# Altium footprint library muon_lib.PcbLib: 5 footprints
Each footprint in its own frame and in the unit in brackets; x right, y up, seen from the top. Pads: shape width x height; smd on the part's side, far side on the other; paste and mask are expansions set on the pad; w line width, h text height; cw(c..) or ccw(c..) is an arc to the next point about the centre after c.
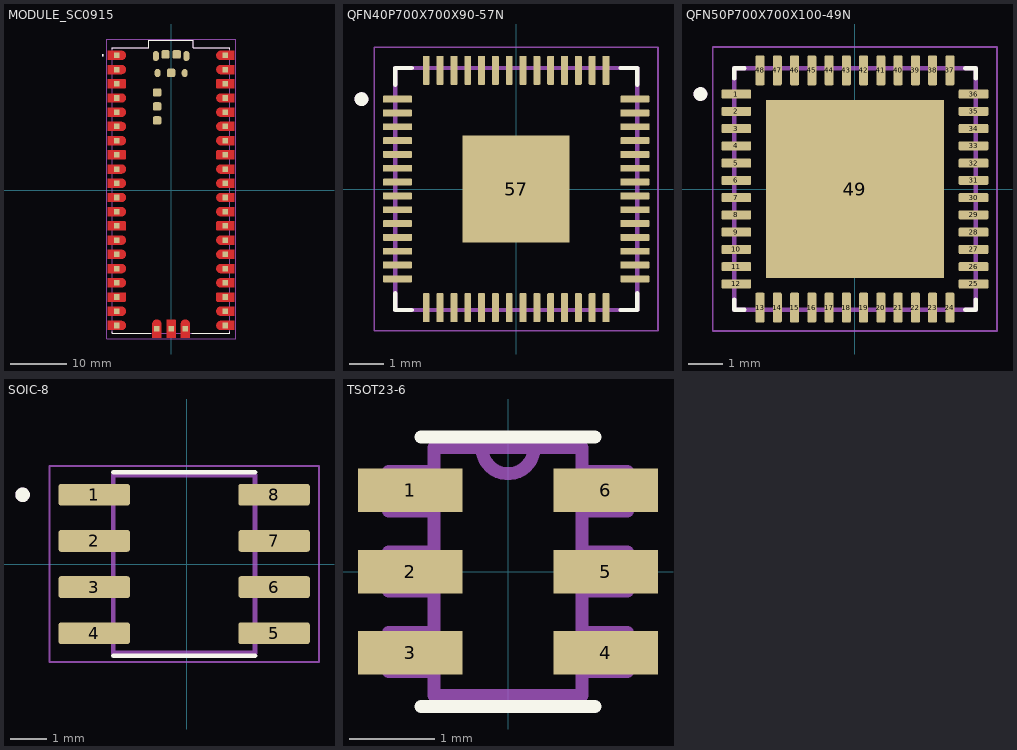
[diagram p0: the footprints below, top view; thin cyan lines are the x and y axes]

## MODULE_SC0915 [mm]
pads (53):
  rect 1x1 smd paste-1 mask+0: 1(-9.69,24.13) 2(-9.69,21.59) 3(-9.69,19.05) 4(-9.69,16.51) 5(-9.69,13.97) 6(-9.69,11.43) 7(-9.69,8.89) 8(-9.69,6.35) 9(-9.69,3.81) 10(-9.69,1.27) 11(-9.69,-1.27) 12(-9.69,-3.81) 13(-9.69,-6.35) 14(-9.69,-8.89) 15(-9.69,-11.43) 16(-9.69,-13.97) 17(-9.69,-16.51) 18(-9.69,-19.05) 19(-9.69,-21.59) 20(-9.69,-24.13) 21(9.69,-24.13) 22(9.69,-21.59) 23(9.69,-19.05) 24(9.69,-16.51) 25(9.69,-13.97) 26(9.69,-11.43) 27(9.69,-8.89) 28(9.69,-6.35) 29(9.69,-3.81) 30(9.69,-1.27) 31(9.69,1.27) 32(9.69,3.81) 33(9.69,6.35) 34(9.69,8.89) 35(9.69,11.43) 36(9.69,13.97) 37(9.69,16.51) 38(9.69,19.05) 39(9.69,21.59) 40(9.69,24.13) D1(-2.54,-24.7) D2(0,-24.7) D3(2.54,-24.7)
  oval 1.1x1.8 smd: A(-2.725,24) B(2.725,24)
  oval 1.05x1.45 smd: C(-2.425,20.97) D(2.425,20.97)
  rrect40% 1.5x1.5 smd: TP1(0,21) TP2(1,24.3) TP3(-1,24.3) TP4(-2.5,17.5) TP5(-2.5,15) TP6(-2.5,12.5)
Top Layer:
  drawing of 43 lines, arcs and shapes, not listed
Top Overlay:
  circle w0.2: c-12.19,24.13 r0.1
  lines w0.127: -10.5,-25.25 -10.5,-25.5 -3.66,-25.5 ; -10.5,25.25 -10.5,25.5 -4,25.5 -4,26.8 4,26.8 4,25.5 10.5,25.5 10.5,25.25 ; 3.66,-25.5 10.5,-25.5 10.5,-25.25
Top Paste:
  drawing of 43 lines, arcs and shapes, not listed
Top Solder:
  drawing of 43 lines, arcs and shapes, not listed
Mechanical 13:
  circle w0.2: c-12.19,24.13 r0.1
  lines w0.127: -10.5,-25.5 -10.5,25.5 -4,25.5 -4,26.8 4,26.8 4,25.5 10.5,25.5 10.5,-25.5 -10.5,-25.5
Mechanical 15:
  lines w0.05: -11.54,-26.55 -11.54,27.05 11.54,27.05 11.54,-26.55 -11.54,-26.55
3D body "step_temp.STEP": height 3.73, standoff 0, extent -10.5,-25.5 10.5,26.8

## QFN40P700X700X90-57N [mm]
height 0.9
pads (57):
  rrect25% 0.84x0.2 smd: 1(-3.435,2.6) 2(-3.435,2.2) 3(-3.435,1.8) 4(-3.435,1.4) 5(-3.435,1) 6(-3.435,0.6) 7(-3.435,0.2) 8(-3.435,-0.2) 9(-3.435,-0.6) 10(-3.435,-1) 11(-3.435,-1.4) 12(-3.435,-1.8) 13(-3.435,-2.2) 14(-3.435,-2.6) 29(3.435,-2.6) 30(3.435,-2.2) 31(3.435,-1.8) 32(3.435,-1.4) 33(3.435,-1) 34(3.435,-0.6) 35(3.435,-0.2) 36(3.435,0.2) 37(3.435,0.6) 38(3.435,1) 39(3.435,1.4) 40(3.435,1.8) 41(3.435,2.2) 42(3.435,2.6)
  rrect25% 0.2x0.84 smd: 15(-2.6,-3.435) 16(-2.2,-3.435) 17(-1.8,-3.435) 18(-1.4,-3.435) 19(-1,-3.435) 20(-0.6,-3.435) 21(-0.2,-3.435) 22(0.2,-3.435) 23(0.6,-3.435) 24(1,-3.435) 25(1.4,-3.435) 26(1.8,-3.435) 27(2.2,-3.435) 28(2.6,-3.435) 43(2.6,3.435) 44(2.2,3.435) 45(1.8,3.435) 46(1.4,3.435) 47(1,3.435) 48(0.6,3.435) 49(0.2,3.435) 50(-0.2,3.435) 51(-0.6,3.435) 52(-1,3.435) 53(-1.4,3.435) 54(-1.8,3.435) 55(-2.2,3.435) 56(-2.6,3.435)
  rect 3.1x3.1 smd paste-0.57: 57(0,0)
Top Overlay:
  circle w0.2: c-4.475,2.6 r0.1
  lines w0.127: -3.5,-3.02 -3.5,-3.5 -3.02,-3.5 ; -3.5,3.02 -3.5,3.5 -3.02,3.5 ; 3.02,-3.5 3.5,-3.5 3.5,-3.02 ; 3.02,3.5 3.5,3.5 3.5,3.02
Mechanical 13:
  circle w0.2: c-4.475,2.6 r0.1
  lines w0.127: -3.5,-3.5 -3.5,3.5 3.5,3.5 3.5,-3.5 -3.5,-3.5
Mechanical 15:
  lines w0.05: -4.105,-4.105 -4.105,4.105 4.105,4.105 4.105,-4.105 -4.105,-4.105
3D body "step_temp.STEP": height 0.9, standoff 0, extent -3.5,-3.5 3.5,3.5

## QFN50P700X700X100-49N [mm]
pads (49):
  rrect25% 0.86x0.26 smd: 1(-3.435,2.75) 2(-3.435,2.25) 3(-3.435,1.75) 4(-3.435,1.25) 5(-3.435,0.75) 6(-3.435,0.25) 7(-3.435,-0.25) 8(-3.435,-0.75) 9(-3.435,-1.25) 10(-3.435,-1.75) 11(-3.435,-2.25) 12(-3.435,-2.75) 25(3.435,-2.75) 26(3.435,-2.25) 27(3.435,-1.75) 28(3.435,-1.25) 29(3.435,-0.75) 30(3.435,-0.25) 31(3.435,0.25) 32(3.435,0.75) 33(3.435,1.25) 34(3.435,1.75) 35(3.435,2.25) 36(3.435,2.75)
  rrect25% 0.26x0.86 smd: 13(-2.75,-3.435) 14(-2.25,-3.435) 15(-1.75,-3.435) 16(-1.25,-3.435) 17(-0.75,-3.435) 18(-0.25,-3.435) 19(0.25,-3.435) 20(0.75,-3.435) 21(1.25,-3.435) 22(1.75,-3.435) 23(2.25,-3.435) 24(2.75,-3.435) 37(2.75,3.435) 38(2.25,3.435) 39(1.75,3.435) 40(1.25,3.435) 41(0.75,3.435) 42(0.25,3.435) 43(-0.25,3.435) 44(-0.75,3.435) 45(-1.25,3.435) 46(-1.75,3.435) 47(-2.25,3.435) 48(-2.75,3.435)
  rect 5.15x5.15 smd paste-4: 49(0,0)
Top Overlay:
  circle w0.2: c-4.475,2.75 r0.1
  lines w0.127: -3.5,-3.2 -3.5,-3.5 -3.2,-3.5 ; -3.5,3.2 -3.5,3.5 -3.2,3.5 ; 3.2,-3.5 3.5,-3.5 3.5,-3.2 ; 3.2,3.5 3.5,3.5 3.5,3.2
Top Paste:
  region: 2.1,-2.1 0.48,-2.1 0.48,-0.48 2.1,-0.48
  region: -0.48,-2.1 -2.1,-2.1 -2.1,-0.48 -0.48,-0.48
  region: 2.1,0.48 0.48,0.48 0.48,2.1 2.1,2.1
  region: -0.48,0.48 -2.1,0.48 -2.1,2.1 -0.48,2.1
Mechanical 13:
  circle w0.2: c-4.475,2.75 r0.1
  lines w0.127: -3.5,-3.5 -3.5,3.5 3.5,3.5 3.5,-3.5 -3.5,-3.5
Mechanical 15:
  lines w0.05: -4.115,-4.115 -4.115,4.115 4.115,4.115 4.115,-4.115 -4.115,-4.115
3D body "ADS4122IRGZT.STEP": height 1, standoff 0, extent -3.5,-3.5 3.5,3.5

## SOIC-8 [mm]
pads (8):
  rrect25% 1.97x0.6 smd: 1(-2.54,1.905) 2(-2.54,0.635) 3(-2.54,-0.635) 4(-2.54,-1.905) 5(2.41,-1.905) 6(2.41,-0.635) 7(2.41,0.635) 8(2.41,1.905)
Top Overlay:
  circle w0.2: c-4.51,1.905 r0.1
  lines w0.127: -2.015,-2.525 1.885,-2.525 ; -2.015,2.525 1.885,2.525
Mechanical 13:
  circle w0.2: c-4.51,1.905 r0.1
  lines w0.127: -2.015,-2.45 -2.015,2.45 1.885,2.45 1.885,-2.45 -2.015,-2.45
Mechanical 15:
  lines w0.05: -3.775,-2.7 -3.775,2.7 3.645,2.7 3.645,-2.7 -3.775,-2.7
3D body "step_temp.STEP": height 2, standoff 0, extent -3.965,-3.1 3.835,3.1

## TSOT23-6 [mil]
pads (6):
  rect 48x20 smd: 1(-45,37.4) 2(-45,0) 3(-45,-37.4) 4(45,-37.4) 5(45,0) 6(45,37.4)
Top Overlay:
  lines w6: -40,-62 40,-62 ; -40,62 40,62
  text "." at -80,70 h23.62
Mechanical 13:
  lines w6: -12,57 ccw(c0,57) 12,57 ; -12,57 12,57 ; -12,57 -34,57 -34,-57 34,-57 34,57 12,57 ; -55,-46 -55,-28 -34,-28 -34,-46 -55,-46 ; -55,-9 -55,9 -34,9 -34,-9 -55,-9 ; -55,28 -55,46 -34,46 -34,28 -55,28 ; 34,-46 34,-28 55,-28 55,-46 34,-46 ; 34,-9 34,9 55,9 55,-9 34,-9 ; 34,28 34,46 55,46 55,28 34,28
3D body "step_temp.STEP": height 39.37, standoff 0, extent -55.12,-57.09 55.12,57.09